# Altium schematic symbol library Transformer_3F.SchLib: 1 symbol
Pins are listed as number, name and electrical type; pins without a type are passive.

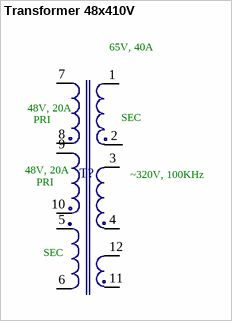
[diagram p0: symbol Transformer 48x410V]

## Transformer 48x410V
designator T?, comment ETD59  (value not drawn)
footprint ETD-59_3F
pins: 1, 2, 3, 4, 5, 6, 7, 8, 9, 10, 11, 12
text: 65V, 40A; 48V, 20A; SEC; PRI; ~320V, 100KHz